# Altium schematic symbol library DualBuck.SchLib: 5 symbols
Pins are listed as number, name and electrical type; pins without a type are passive.

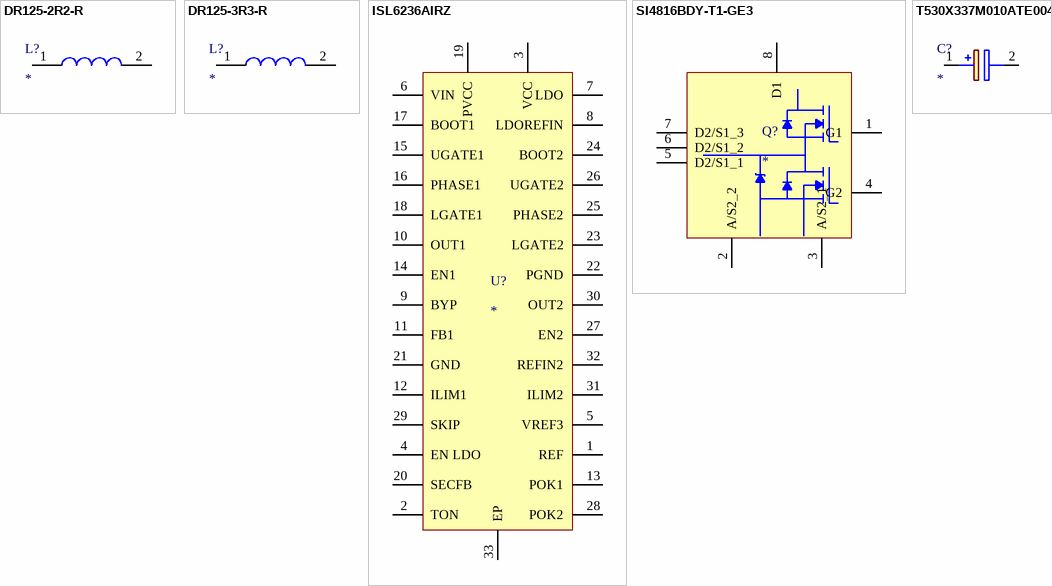
[diagram p0: symbols DR125-2R2-R to T530X337M010ATE004]

## DR125-2R2-R
designator L?
Inductor; Manufacturer_Name: Cooper Bussmann; Manufacturer_Part_Number: DR125-2R2-R; Datasheet Link: http://www1.cooperbussmann.com/pdf/4a32919a-7470-4ae0-be45-b59e3a1351ef.pdf; Height: 6mm; RS Part Number: 7700968; RS Price/Stock: https://uk.rs-online.com/web/p/products/7700968
footprint INDPM125125X600N
pins: 1, 2

## DR125-3R3-R
designator L?
Inductor; Manufacturer_Name: Cooper Bussmann; Manufacturer_Part_Number: DR125-3R3-R; Datasheet Link: http://www.cooperindustries.com/content/dam/public/bussmann/Electronics/Resources/product-datasheets/Bus_Elx_DS_4315_DR_Series.pdf; Height: 6mm; RS Part Number: 7700974; RS Price/Stock: https://uk.rs-online.com/web/p/products/7700974
footprint INDPM125125X600N
pins: 1, 2

## ISL6236AIRZ
designator U?
Integrated Circuit
footprint QFN50P500X500X100-33N
pins: 1 REF, 2 TON, 3 VCC, 4 EN LDO, 5 VREF3, 6 VIN, 7 LDO, 8 LDOREFIN, 9 BYP, 10 OUT1, 11 FB1, 12 ILIM1, 13 POK1, 14 EN1, 15 UGATE1, 16 PHASE1, 17 BOOT1, 18 LGATE1, 19 PVCC, 20 SECFB, 21 GND, 22 PGND (power), 23 LGATE2, 24 BOOT2, 25 PHASE2, 26 UGATE2, 27 EN2, 28 POK2, 29 SKIP, 30 OUT2, 31 ILIM2, 32 REFIN2, 33 EP

## SI4816BDY-T1-GE3
designator Q?
Integrated Circuit
footprint SOT127P600X175-8N
pins: 1 G1, 2 A/S2_2, 3 A/S2_1, 4 G2, 5 D2/S1_1, 6 D2/S1_2, 7 D2/S1_3, 8 D1

## T530X337M010ATE004
designator C?
Capacitor Polarised; Manufacturer_Name: Kemet; Manufacturer_Part_Number: T530X337M010ATE004; Description: Kemet 330uF Solid Polymer Tantalum Electrolytic Capacitor; Datasheet Link: http://capacitoredge.kemet.com/capedge2/DataSheet?pn=T530X337M010ATE004; Height: 4.3mm; Mouser Part Number: 80-T530X337M010ATE4; Mouser Price/Stock: https://www.mouser.com/Search/Refine.aspx?Keyword=80-T530X337M010ATE4; RS Part Number: 6925817; RS Price/Stock: https://uk.rs-online.com/web/p/products/6925817
footprint CAPPM7343X430N
pins: 1 +, 2 -